# Altium footprint library Single_Hand_YK.PcbLib: 35 footprints (part 3 of 3)
Each footprint in its own frame and in the unit in brackets; x right, y up, seen from the top. Pads: shape width x height; smd on the part's side, far side on the other; paste and mask are expansions set on the pad; w line width, h text height; cw(c..) or ccw(c..) is an arc to the next point about the centre after c.
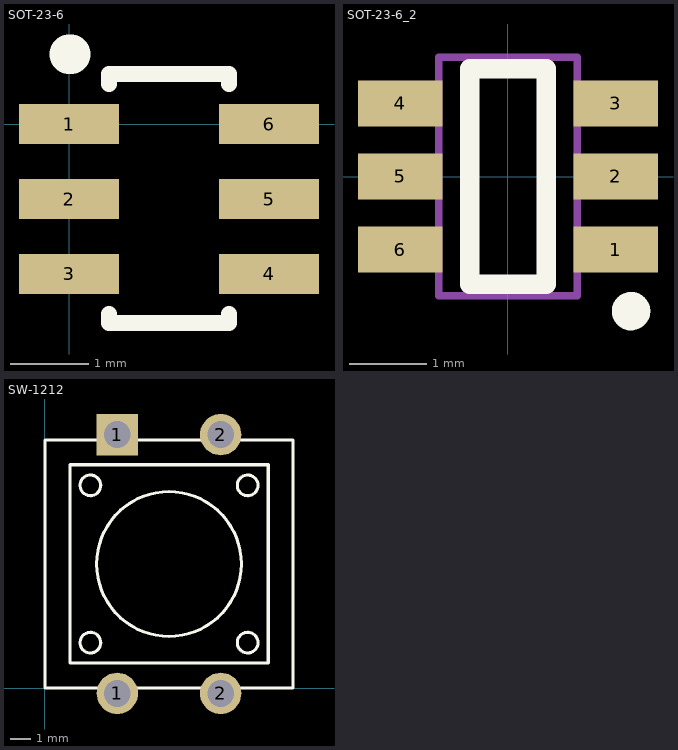
[diagram p2: the footprints below, top view; thin cyan lines are the x and y axes]

## SOT-23-6 [mil]
pads (6):
  rect 50x20 smd: 1(0,0) 2(0,-37.4) 3(0,-74.8) 4(100,-74.8) 5(100,-37.4) 6(100,0)
Top Overlay:
  lines w8: 20,-95 20,-99.32 80,-99.32 80,-95 ; 20,20 20,25 80,25 80,20
  lines w19.68: 0,35 1,35

## SOT-23-6_2 [mm]
pads (6):
  rect 1.1x0.6 smd: 1(1.4,-0.95) 2(1.4,0) 3(1.4,0.95) 4(-1.4,0.95) 5(-1.4,0) 6(-1.4,-0.95)
Top Overlay:
  circle w0.25: c1.6,-1.75 r0.125
  lines w0.254: -0.5,-1.4 -0.5,1.4 0.5,1.4 0.5,-1.4 -0.5,-1.4
Mechanical 13:
  lines w0.1: -0.9,-1.55 -0.9,1.55 0.9,1.55 0.9,-1.55 -0.9,-1.55

## SW-1212 [mm]
pads (4):
  rect 2x2 hole 1.3: 1(3.5,12.25)
  round 2 hole 1.3: 1(3.5,-0.25) 2(8.5,-0.25) 2(8.5,12.25)
Top Overlay:
  circle w0.15: c9.8,9.8 r0.5
  circle w0.15: c2.2,9.8 r0.5
  circle w0.15: c9.8,2.2 r0.5
  circle w0.15: c6,6 r3.5
  circle w0.15: c2.2,2.2 r0.5
  lines w0.15: 0,0 0,12 12,12 12,0 0,0 ; 1.219,1.219 10.795,1.219 10.795,10.795 1.219,10.795 1.219,1.219
3D body "User Library-SWT9.step": height 9.5, standoff -3.5, extent 0,-0.937 12,12.937